# Altium schematic symbol library SCH - POWER - SWITCHMODE - TI TPS54320_RHL_14.SchLib: 1 symbol
Pins are listed as number, name and electrical type; pins without a type are passive.

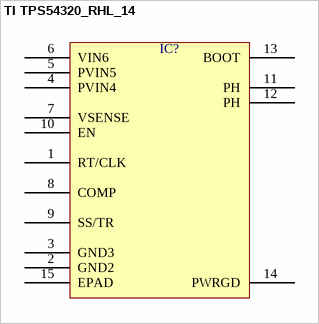
[diagram p0: symbol TI TPS54320_RHL_14]

## TI TPS54320_RHL_14
designator IC?  (value not drawn)
pins: 1 RT/CLK, 2 GND2, 3 GND3, 4 PVIN4, 5 PVIN5, 6 VIN6, 7 VSENSE, 8 COMP, 9 SS/TR, 10 EN, 11 PH, 12 PH, 13 BOOT, 14 PWRGD, 15 EPAD